# EAGLE library part VL53L1X (library VL53L1X)
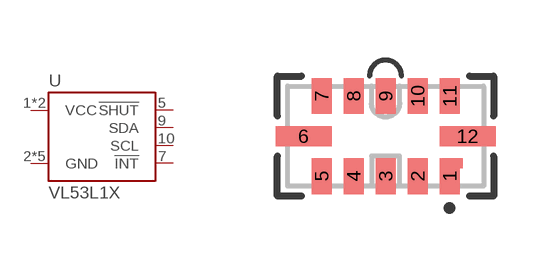
[diagram p0: symbol with the pads of VL53L1X; footprint VL53L1X]

Designator prefix U

## VL53L1XSMD  [VL53L1X]
1  VCC
2  GND
3  GND
4  GND
5  !SHUT
6  GND
7  !INT
9  SDA
10  SCL
11  VCC
12  GND

## Footprint VL53L1X (pad centres in mm)
smd 0.5 x 0.9: 1 1.6,-1; 2 0.8,-1; 3 0,-1; 4 -0.8,-1; 5 -1.6,-1; 7 -1.6,1; 8 -0.8,1; 9 0,1; 10 0.8,1; 11 1.6,1
smd 1.4 x 0.5: 6 -2.05,0; 12 2.05,0